# Altium schematic symbol library Memory Connectors - PC Card Sockets.SchLib: 1 symbol
Pins are listed as number, name and electrical type; pins without a type are passive.

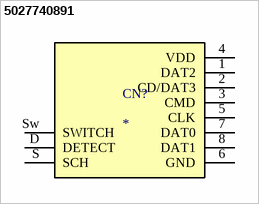
[diagram p0: symbol 5027740891]

## 5027740891
designator CN?
CONN MICRO SD CARD PUSH-PUSH R/A; Supplier 1: Farnell; Supplier Part Number 1: 2064063
footprint MOLEX_5027740891
pins: 1 DAT2, 2 CD/DAT3, 3 CMD, 4 VDD, 5 CLK, 6 GND, 7 DAT0, 8 DAT1, D DETECT, S SCH, Sw SWITCH